# EAGLE library part MT41K256M16?* (library Micron)
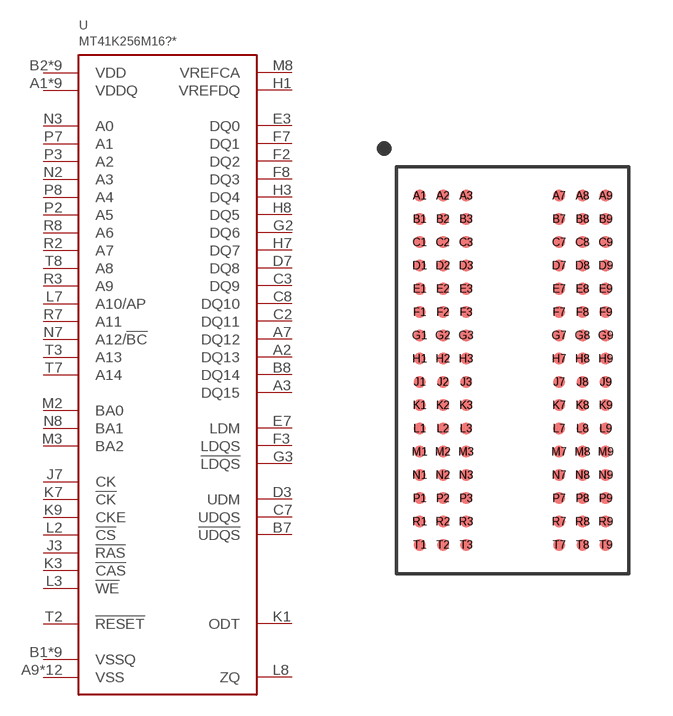
[diagram p0: symbol with the pads of FBGA96_14X8; footprint FBGA96_14X8]

Designator prefix U

## MT41K256M16TW-093, MT41K256M16TW-107, MT41K256M16TW-125  [FBGA96_14X8]
A1  VDDQ
A2  DQ13
A3  DQ15
A7  DQ12
A8  VDDQ
A9  VSS
B1  VSSQ
B2  VDD
B3  VSS
B7  !UDQS
B8  DQ14
B9  VSSQ
C1  VDDQ
C2  DQ11
C3  DQ9
C7  UDQS
C8  DQ10
C9  VDDQ
D1  VSSQ
D2  VDDQ
D3  UDM
D7  DQ8
D8  VSSQ
D9  VDD
E1  VSS
E2  VSSQ
E3  DQ0
E7  LDM
E8  VSSQ
E9  VDDQ
F1  VDDQ
F2  DQ2
F3  LDQS
F7  DQ1
F8  DQ3
F9  VSSQ
G1  VSSQ
G2  DQ6
G3  !LDQS
G7  VDD
G8  VSS
G9  VSSQ
H1  VREFDQ
H2  VDDQ
H3  DQ4
H7  DQ7
H8  DQ5
H9  VDDQ
J2  VSS
J3  !RAS
J7  CK
J8  VSS
K1  ODT
K2  VDD
K3  !CAS
K7  !CK
K8  VDD
K9  CKE
L2  !CS
L3  !WE
L7  A10/AP
L8  ZQ
M1  VSS
M2  BA0
M3  BA2
M8  VREFCA
M9  VSS
N1  VDD
N2  A3
N3  A0
N7  A12/!BC
N8  BA1
N9  VDD
P1  VSS
P2  A5
P3  A2
P7  A1
P8  A4
P9  VSS
R1  VDD
R2  A7
R3  A9
R7  A11
R8  A6
R9  VDD
T1  VSS
T2  !RESET
T3  A13
T7  A14
T8  A8
T9  VSS

## Footprint FBGA96_14X8 (pad centres in mm)
smd 0.42 x 0.42: A1 -3.2,6; A2 -2.4,6; A3 -1.6,6; A7 1.6,6; A8 2.4,6; A9 3.2,6; B1 -3.2,5.2; B2 -2.4,5.2; B3 -1.6,5.2; B7 1.6,5.2; B8 2.4,5.2; B9 3.2,5.2; C1 -3.2,4.4; C2 -2.4,4.4; C3 -1.6,4.4; C7 1.6,4.4; C8 2.4,4.4; C9 3.2,4.4; D1 -3.2,3.6; D2 -2.4,3.6; D3 -1.6,3.6; D7 1.6,3.6; D8 2.4,3.6; D9 3.2,3.6; E1 -3.2,2.8; E2 -2.4,2.8; E3 -1.6,2.8; E7 1.6,2.8; E8 2.4,2.8; E9 3.2,2.8; F1 -3.2,2; F2 -2.4,2; F3 -1.6,2; F7 1.6,2; F8 2.4,2; F9 3.2,2; G1 -3.2,1.2; G2 -2.4,1.2; G3 -1.6,1.2; G7 1.6,1.2; G8 2.4,1.2; G9 3.2,1.2; H1 -3.2,0.4; H2 -2.4,0.4; H3 -1.6,0.4; H7 1.6,0.4; H8 2.4,0.4; H9 3.2,0.4; J1 -3.2,-0.4; J2 -2.4,-0.4; J3 -1.6,-0.4; J7 1.6,-0.4; J8 2.4,-0.4; J9 3.2,-0.4; K1 -3.2,-1.2; K2 -2.4,-1.2; K3 -1.6,-1.2; K7 1.6,-1.2; K8 2.4,-1.2; K9 3.2,-1.2; L1 -3.2,-2; L2 -2.4,-2; L3 -1.6,-2; L7 1.6,-2; L8 2.4,-2; L9 3.2,-2; M1 -3.2,-2.8; M2 -2.4,-2.8; M3 -1.6,-2.8; M7 1.6,-2.8; M8 2.4,-2.8; M9 3.2,-2.8; N1 -3.2,-3.6; N2 -2.4,-3.6; N3 -1.6,-3.6; N7 1.6,-3.6; N8 2.4,-3.6; N9 3.2,-3.6; P1 -3.2,-4.4; P2 -2.4,-4.4; P3 -1.6,-4.4; P7 1.6,-4.4; P8 2.4,-4.4; P9 3.2,-4.4; R1 -3.2,-5.2; R2 -2.4,-5.2; R3 -1.6,-5.2; R7 1.6,-5.2; R8 2.4,-5.2; R9 3.2,-5.2; T1 -3.2,-6; T2 -2.4,-6; T3 -1.6,-6; T7 1.6,-6; T8 2.4,-6; T9 3.2,-6